# Altium footprint library Custom_MountingHole.PcbLib: 1 footprints
Each footprint in its own frame and in the unit in brackets; x right, y up, seen from the top. Pads: shape width x height; smd on the part's side, far side on the other; paste and mask are expansions set on the pad; w line width, h text height; cw(c..) or ccw(c..) is an arc to the next point about the centre after c.
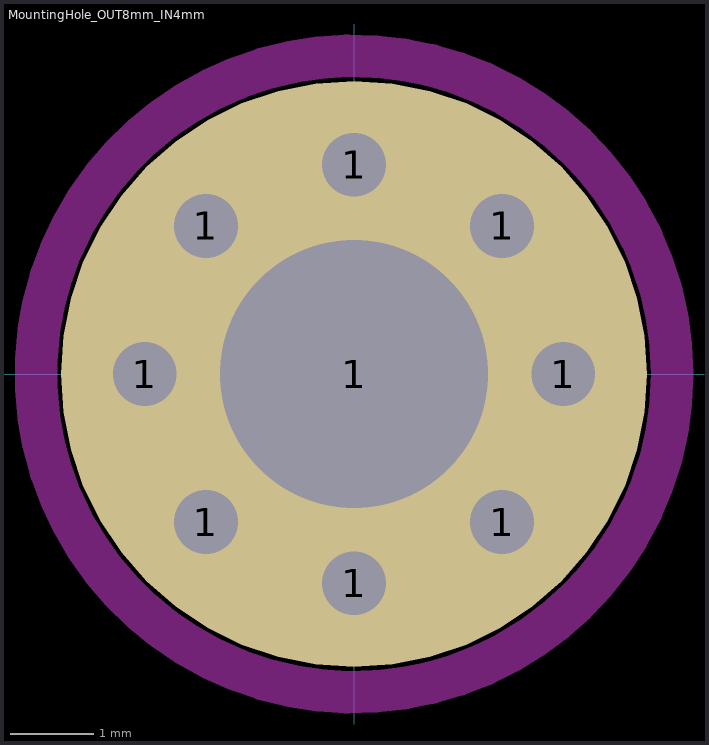
[diagram p0: the footprint, top view; thin cyan lines are the x and y axes]

## MountingHole_OUT8mm_IN4mm [mil]
pads (9):
  round 60 hole 30: 1(-98.43,0) 1(-69.6,-69.6) 1(-69.6,69.6) 1(0,-98.43) 1(0,98.43) 1(69.6,-69.6) 1(69.6,69.6) 1(98.43,0)
  round 275.59 hole 125.98: 1(0,0)
Keep-Out Layer:
  circle w20: c0,0 r149.61